# Altium schematic symbol library TUSB9261IPVP.SchLib: 1 symbol
Pins are listed as number, name and electrical type; pins without a type are passive.

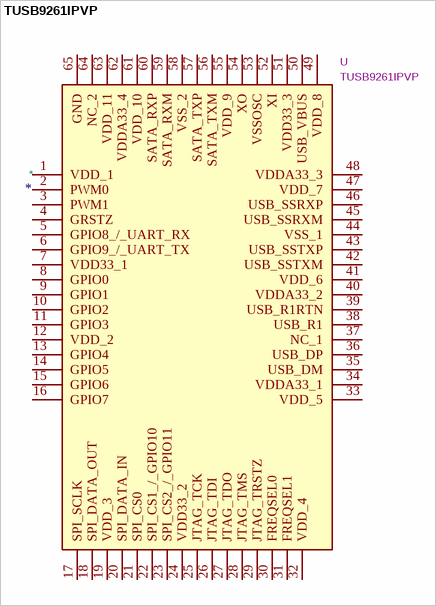
[diagram p0: symbol TUSB9261IPVP]

## TUSB9261IPVP
designator *  value TUSB9261IPVP  Reference: U
Manufacturer_Name: Texas Instruments; ki_description: USB 3.0 5 Gbps to SATA Bridge; Footprint: QFP40P900X900X120-65N; Datasheet: http://www.ti.com/lit/gpn/tusb9261; Height: 1.2; Manufacturer_Part_Number: TUSB9261IPVP; Mouser Part Number: 595-TUSB9261IPVP; Mouser Price/Stock: https://www.mouser.co.uk/ProductDetail/Texas-Instruments/TUSB9261IPVP?qs=FBI%252BX3tnPf1SUg0QkfZf9Q%3D%3D; Arrow Part Number: TUSB9261IPVP; Arrow Price/Stock: https://www.arrow.com/en/products/tusb9261ipvp/texas-instruments?region=nac
pins: 1 VDD_1, 2 PWM0, 3 PWM1, 4 GRSTZ, 5 GPIO8_/_UART_RX, 6 GPIO9_/_UART_TX, 7 VDD33_1, 8 GPIO0, 9 GPIO1, 10 GPIO2, 11 GPIO3, 12 VDD_2, 13 GPIO4, 14 GPIO5, 15 GPIO6, 16 GPIO7, 17 SPI_SCLK, 18 SPI_DATA_OUT, 19 VDD_3, 20 SPI_DATA_IN, 21 SPI_CS0, 22 SPI_CS1_/_GPIO10, 23 SPI_CS2_/_GPIO11, 24 VDD33_2, 25 JTAG_TCK, 26 JTAG_TDI, 27 JTAG_TDO, 28 JTAG_TMS, 29 JTAG_TRSTZ, 30 FREQSEL0, 31 FREQSEL1, 32 VDD_4, 33 VDD_5, 34 VDDA33_1, 35 USB_DM, 36 USB_DP, 37 NC_1, 38 USB_R1, 39 USB_R1RTN, 40 VDDA33_2, 41 VDD_6, 42 USB_SSTXM, 43 USB_SSTXP, 44 VSS_1, 45 USB_SSRXM, 46 USB_SSRXP, 47 VDD_7, 48 VDDA33_3, 49 VDD_8, 50 USB_VBUS, 51 VDD33_3, 52 XI, 53 VSSOSC, 54 XO, 55 VDD_9, 56 SATA_TXM, 57 SATA_TXP, 58 VSS_2, 59 SATA_RXM, 60 SATA_RXP, 61 VDD_10, 62 VDDA33_4, 63 VDD_11, 64 NC_2, 65 GND